# Altium schematic symbol library LX1-LEDring.SchLib: 1 symbol
Pins are listed as number, name and electrical type; pins without a type are passive.

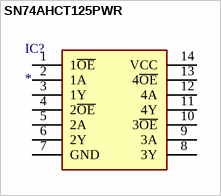
[diagram p0: symbol SN74AHCT125PWR]

## SN74AHCT125PWR
designator IC?
Integrated Circuit; Manufacturer_Name: Texas Instruments; Manufacturer_Part_Number: SN74AHCT125PWR; Datasheet Link: http://www.ti.com/lit/gpn/sn74ahct125; Height: 1.2mm; Mouser Part Number: 595-SN74AHCT125PWR; Mouser Price/Stock: https://www.mouser.com/Search/Refine.aspx?Keyword=595-SN74AHCT125PWR
footprint SOP65P640X120-14N
pins: 1 1~{OE}, 2 1A, 3 1Y, 4 2~{OE}, 5 2A, 6 2Y, 7 GND, 8 3Y, 9 3A, 10 3~{OE}, 11 4Y, 12 4A, 13 4~{OE}, 14 VCC